# Altium footprint library TO-220_lay.PcbLib: 1 footprints
Each footprint in its own frame and in the unit in brackets; x right, y up, seen from the top. Pads: shape width x height; smd on the part's side, far side on the other; paste and mask are expansions set on the pad; w line width, h text height; cw(c..) or ccw(c..) is an arc to the next point about the centre after c.
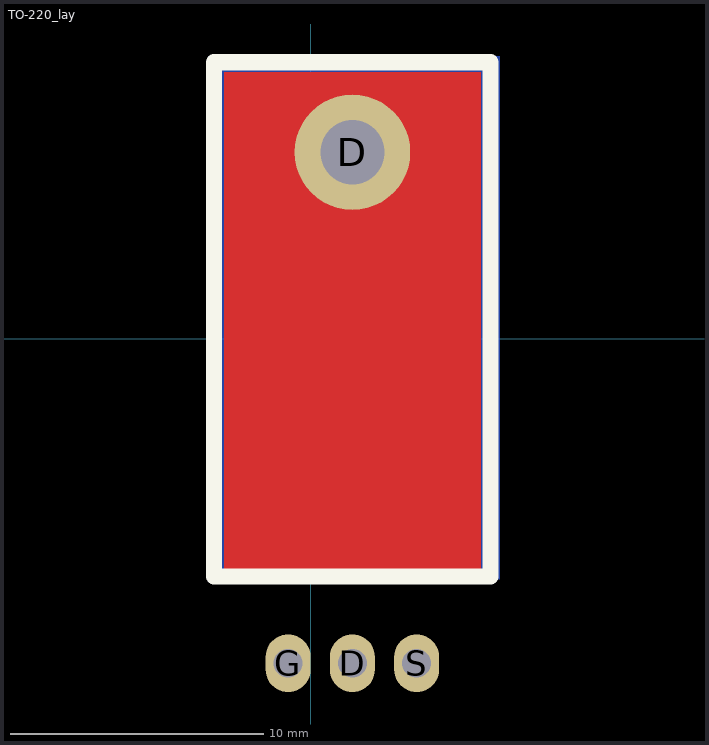
[diagram p0: the footprint, top view; thin cyan lines are the x and y axes]

## TO-220_lay [mil]
pads (4):
  oval 70x90 hole 45: D(65,-505) G(-35,-505) S(165,-505)
  round 180 hole 100: D(65,290)
Top Layer:
  rectangle: -135,-365 265,415
Bottom Layer:
  rectangle: -160,-375 295,440
Top Overlay:
  lines w25: -150,-370 280,-370 280,430 -150,430 -150,-370
Top Paste:
  rectangle: -145,-365 275,425
Top Solder:
  rectangle: -145,-365 275,425
3D body "TO220 (bend) 2.STEP": height 179.25, standoff 4.25, extent -130,-511.04 262.5,411.04